# EAGLE library part MT28F800B3 (library IC)
Micron MT28F800B3 low voltage, nonvolatile, flash memory
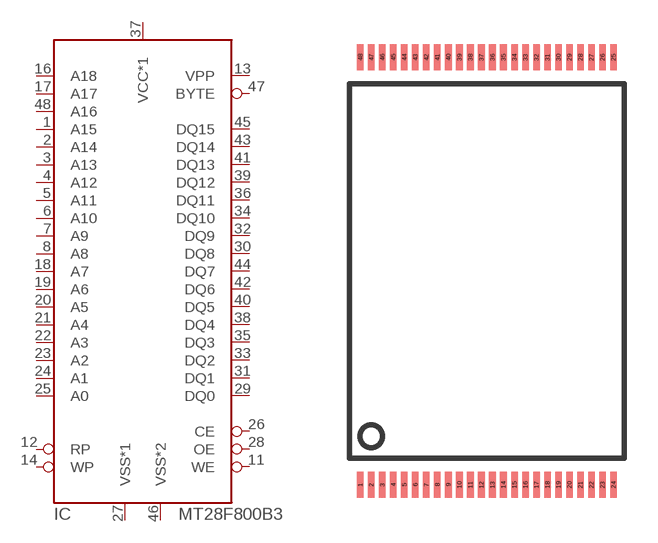
[diagram p50: symbol with the pads of TSOP48-1; footprint TSOP48-1]

Designator prefix IC

## MT28F800B3  [TSOP48-1]
1  A15
2  A14
3  A13
4  A12
5  A11
6  A10
7  A9
8  A8
11  WE
12  RP
13  VPP  pwr
14  WP
16  A18
17  A17
18  A7
19  A6
20  A5
21  A4
22  A3
23  A2
24  A1
25  A0
26  CE
27  VSS*1  pwr
28  OE
29  DQ0
30  DQ8
31  DQ1
32  DQ9
33  DQ2
34  DQ10
35  DQ3
36  DQ11
37  VCC*1  pwr
38  DQ4
39  DQ12
40  DQ5
41  DQ13
42  DQ6
43  DQ14
44  DQ7
45  DQ15
46  VSS*2  pwr
47  BYTE
48  A16

## Footprint TSOP48-1 (pad centres in mm)
smd 0.3 x 1.2: 1 -6,-9.7; 2 -5.5,-9.7; 3 -5,-9.7; 4 -4.5,-9.7; 5 -4,-9.7; 6 -3.5,-9.7; 7 -3,-9.7; 8 -2.5,-9.7; 9 -2,-9.7; 10 -1.5,-9.7; 11 -1,-9.7; 12 -0.5,-9.7; 13 0,-9.7; 14 0.5,-9.7; 15 1,-9.7; 16 1.5,-9.7; 17 2,-9.7; 18 2.5,-9.7; 19 3,-9.7; 20 3.5,-9.7; 21 4,-9.7; 22 4.5,-9.7; 23 5,-9.7; 24 5.5,-9.7; 25 5.5,9.7; 26 5,9.7; 27 4.5,9.7; 28 4,9.7; 29 3.5,9.7; 30 3,9.7; 31 2.5,9.7; 32 2,9.7; 33 1.5,9.7; 34 1,9.7; 35 0.5,9.7; 36 0,9.7; 37 -0.5,9.7; 38 -1,9.7; 39 -1.5,9.7; 40 -2,9.7; 41 -2.5,9.7; 42 -3,9.7; 43 -3.5,9.7; 44 -4,9.7; 45 -4.5,9.7; 46 -5,9.7; 47 -5.5,9.7; 48 -6,9.7